# EAGLE library part MOLEX-MINI-B-SMT (library SM1000)
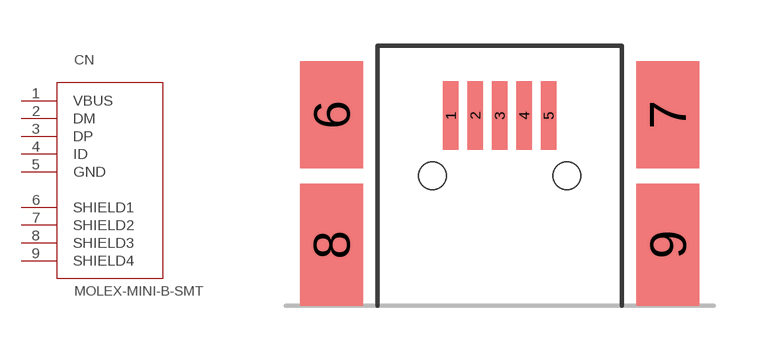
[diagram p6: symbol with the pads of MOLEX-MINI-B-SMT; footprint MOLEX-MINI-B-SMT]

Designator prefix CN

## MOLEX-MINI-B-SMT  [MOLEX-MINI-B-SMT]
1  VBUS
2  DM
3  DP
4  ID
5  GND
6  SHIELD1
7  SHIELD2
8  SHIELD3
9  SHIELD4

## Footprint MOLEX-MINI-B-SMT (pad centres in mm)
smd 0.5 x 2.25: 1 -1.6,6.225; 2 -0.8,6.225; 3 0,6.225; 4 0.8,6.225; 5 1.6,6.225
smd 2.05 x 3.5: 6 -5.5,6.25; 7 5.5,6.25
smd 2.05 x 4: 8 -5.5,2; 9 5.5,2
hole 0.9 at -2.2,4.25
hole 0.9 at 2.2,4.25